# Altium integrated library kc133a.IntLib: 1 symbol
Pins are listed as number, name and electrical type; pins without a type are passive.

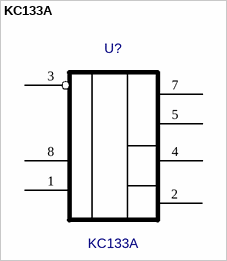
[diagram p0: symbol KC133A]

## KC133A
designator U?
Value: *
footprint KC133A_KC133A(Primary)
pins: 1, 2, 3 (power), 4, 5, 7 6, 8 7